# Altium schematic symbol library FSV20100V.SchLib: 1 symbol
Pins are listed as number, name and electrical type; pins without a type are passive.

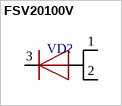
[diagram p0: symbol FSV20100V]

## FSV20100V
designator VD?
pins: 1 2, 2 3, 3